# Altium integrated library Altium_WRIS-RSKS (rev23a).IntLib: 507 symbols (part 9 of 10)
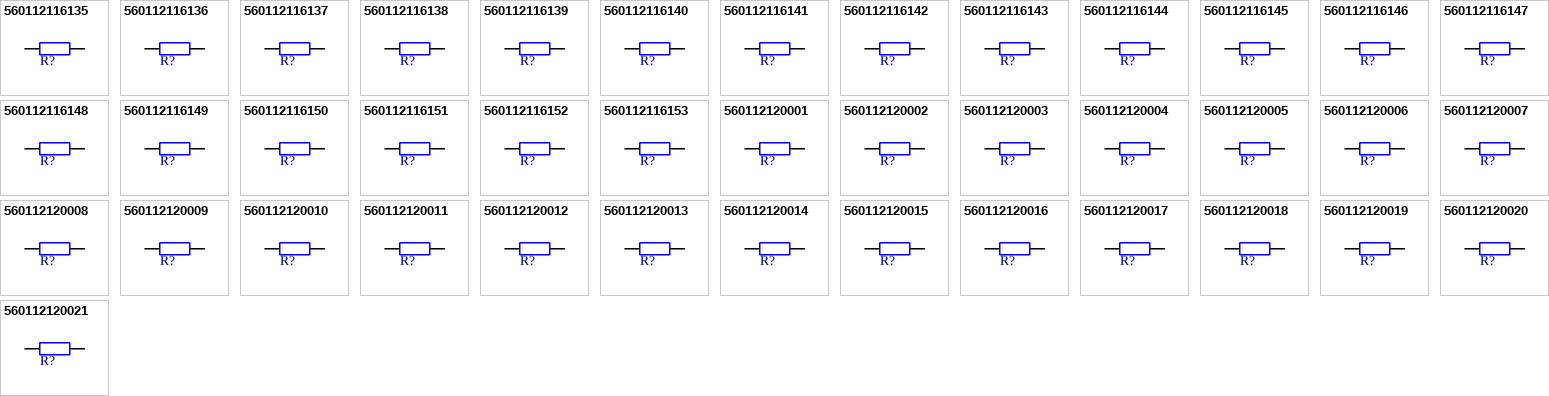
[diagram p20: symbols 560112116135 to 560112120021]

## 560112116153
designator R?, comment 4120Ohm, 100mW  (value not drawn)
WRIS-RSKS Thick Film Resistor, size 0603, 4120Ohm, 100mW; Manufacturer Part Number: 560112116153; Manufacturer: Wurth Elektronik; Case/Size Code: 0603; Limiting Element Voltage: 75V; Resistance Tolerance: +/-1%; Temperature Coefficient of Resistance Min: -100ppm/°C; Temperature Coefficient of Resistance Max: 100ppm/°C; Category: Thick Film Resistors; Match Code: WRIS-RSKS; ComponentLink1Description: Website Link; ComponentLink1URL: https://www.we-online.com/redexpert/article/560112116153?ad; ComponentLink2Description: Datasheet Link; ComponentLink2URL: https://www.we-online.com/redexpert/spec/560112116153?ad; Mount: Surface Mount; Operating Temperature Max: 155°C; Operating Temperature Min: -55°C; Packaging: Tape and Reel; Length: 1.6mm; Width: 0.8mm; Height: 0.45mm; Rated Power: 100mW; Resistance: 4120Ohm
footprint WRIS-RSKS_0603_Reflow
footprint WRIS-RSKS_0603_Wave
pins: 1, 2

## 560112120001
designator R?, comment 10Ohm, 250mW  (value not drawn)
WRIS-RSKS Thick Film Resistor, size 0805, 10Ohm, 250mW; Manufacturer Part Number: 560112120001; Manufacturer: Wurth Elektronik; Case/Size Code: 0805; Limiting Element Voltage: 150V; Resistance Tolerance: +/-5%; Temperature Coefficient of Resistance Min: -200ppm/°C; Temperature Coefficient of Resistance Max: 400ppm/°C; Category: Thick Film Resistors; Match Code: WRIS-RSKS; ComponentLink1Description: Website Link; ComponentLink1URL: https://www.we-online.com/redexpert/article/560112120001?ad; ComponentLink2Description: Datasheet Link; ComponentLink2URL: https://www.we-online.com/redexpert/spec/560112120001?ad; Mount: Surface Mount; Operating Temperature Max: 155°C; Operating Temperature Min: -55°C; Packaging: Tape and Reel; Length: 2mm; Width: 1.25mm; Height: 0.5mm; Rated Power: 250mW; Resistance: 10Ohm
footprint WRIS-RSKS_0805_Reflow
footprint WRIS-RSKS_0805_Wave
pins: 1, 2

## 560112120002
designator R?, comment 125mW  (value not drawn)
WRIS-RSKS Thick Film Resistor, size 0805, 125mW; Manufacturer Part Number: 560112120002; Manufacturer: Wurth Elektronik; Case/Size Code: 0805; Category: Thick Film Resistors; Match Code: WRIS-RSKS; ComponentLink1Description: Website Link; ComponentLink1URL: https://www.we-online.com/redexpert/article/560112120002?ad; ComponentLink2Description: Datasheet Link; ComponentLink2URL: https://www.we-online.com/redexpert/spec/560112120002?ad; Mount: Surface Mount; Operating Temperature Max: 155°C; Operating Temperature Min: -55°C; Packaging: Tape and Reel; Length: 2mm; Width: 1.25mm; Height: 0.5mm; Rated Power: 125mW
footprint WRIS-RSKS_0805_Reflow
footprint WRIS-RSKS_0805_Wave
pins: 1, 2

## 560112120003
designator R?, comment 47Ohm, 250mW  (value not drawn)
WRIS-RSKS Thick Film Resistor, size 0805, 47Ohm, 250mW; Manufacturer Part Number: 560112120003; Manufacturer: Wurth Elektronik; Case/Size Code: 0805; Limiting Element Voltage: 150V; Resistance Tolerance: +/-1%; Temperature Coefficient of Resistance Min: -100ppm/°C; Temperature Coefficient of Resistance Max: 100ppm/°C; Category: Thick Film Resistors; Match Code: WRIS-RSKS; ComponentLink1Description: Website Link; ComponentLink1URL: https://www.we-online.com/redexpert/article/560112120003?ad; ComponentLink2Description: Datasheet Link; ComponentLink2URL: https://www.we-online.com/redexpert/spec/560112120003?ad; Mount: Surface Mount; Operating Temperature Max: 155°C; Operating Temperature Min: -55°C; Packaging: Tape and Reel; Length: 2mm; Width: 1.25mm; Height: 0.5mm; Rated Power: 250mW; Resistance: 47Ohm
footprint WRIS-RSKS_0805_Reflow
footprint WRIS-RSKS_0805_Wave
pins: 1, 2

## 560112120004
designator R?, comment 10000Ohm, 250mW  (value not drawn)
WRIS-RSKS Thick Film Resistor, size 0805, 10000Ohm, 250mW; Manufacturer Part Number: 560112120004; Manufacturer: Wurth Elektronik; Case/Size Code: 0805; Limiting Element Voltage: 150V; Resistance Tolerance: +/-1%; Temperature Coefficient of Resistance Min: -100ppm/°C; Temperature Coefficient of Resistance Max: 100ppm/°C; Category: Thick Film Resistors; Match Code: WRIS-RSKS; ComponentLink1Description: Website Link; ComponentLink1URL: https://www.we-online.com/redexpert/article/560112120004?ad; ComponentLink2Description: Datasheet Link; ComponentLink2URL: https://www.we-online.com/redexpert/spec/560112120004?ad; Mount: Surface Mount; Operating Temperature Max: 155°C; Operating Temperature Min: -55°C; Packaging: Tape and Reel; Length: 2mm; Width: 1.25mm; Height: 0.5mm; Rated Power: 250mW; Resistance: 10000Ohm
footprint WRIS-RSKS_0805_Reflow
footprint WRIS-RSKS_0805_Wave
pins: 1, 2

## 560112120005
designator R?, comment 75Ohm, 250mW  (value not drawn)
WRIS-RSKS Thick Film Resistor, size 0805, 75Ohm, 250mW; Manufacturer Part Number: 560112120005; Manufacturer: Wurth Elektronik; Case/Size Code: 0805; Limiting Element Voltage: 150V; Resistance Tolerance: +/-5%; Temperature Coefficient of Resistance Min: -100ppm/°C; Temperature Coefficient of Resistance Max: 100ppm/°C; Category: Thick Film Resistors; Match Code: WRIS-RSKS; ComponentLink1Description: Website Link; ComponentLink1URL: https://www.we-online.com/redexpert/article/560112120005?ad; ComponentLink2Description: Datasheet Link; ComponentLink2URL: https://www.we-online.com/redexpert/spec/560112120005?ad; Mount: Surface Mount; Operating Temperature Max: 155°C; Operating Temperature Min: -55°C; Packaging: Tape and Reel; Length: 2mm; Width: 1.25mm; Height: 0.5mm; Rated Power: 250mW; Resistance: 75Ohm
footprint WRIS-RSKS_0805_Reflow
footprint WRIS-RSKS_0805_Wave
pins: 1, 2

## 560112120006
designator R?, comment 330000Ohm, 250mW  (value not drawn)
WRIS-RSKS Thick Film Resistor, size 0805, 330000Ohm, 250mW; Manufacturer Part Number: 560112120006; Manufacturer: Wurth Elektronik; Case/Size Code: 0805; Limiting Element Voltage: 150V; Resistance Tolerance: +/-1%; Temperature Coefficient of Resistance Min: -100ppm/°C; Temperature Coefficient of Resistance Max: 100ppm/°C; Category: Thick Film Resistors; Match Code: WRIS-RSKS; ComponentLink1Description: Website Link; ComponentLink1URL: https://www.we-online.com/redexpert/article/560112120006?ad; ComponentLink2Description: Datasheet Link; ComponentLink2URL: https://www.we-online.com/redexpert/spec/560112120006?ad; Mount: Surface Mount; Operating Temperature Max: 155°C; Operating Temperature Min: -55°C; Packaging: Tape and Reel; Length: 2mm; Width: 1.25mm; Height: 0.5mm; Rated Power: 250mW; Resistance: 330000Ohm
footprint WRIS-RSKS_0805_Reflow
footprint WRIS-RSKS_0805_Wave
pins: 1, 2

## 560112120007
designator R?, comment 36000Ohm, 250mW  (value not drawn)
WRIS-RSKS Thick Film Resistor, size 0805, 36000Ohm, 250mW; Manufacturer Part Number: 560112120007; Manufacturer: Wurth Elektronik; Case/Size Code: 0805; Limiting Element Voltage: 150V; Resistance Tolerance: +/-1%; Temperature Coefficient of Resistance Min: -100ppm/°C; Temperature Coefficient of Resistance Max: 100ppm/°C; Category: Thick Film Resistors; Match Code: WRIS-RSKS; ComponentLink1Description: Website Link; ComponentLink1URL: https://www.we-online.com/redexpert/article/560112120007?ad; ComponentLink2Description: Datasheet Link; ComponentLink2URL: https://www.we-online.com/redexpert/spec/560112120007?ad; Mount: Surface Mount; Operating Temperature Max: 155°C; Operating Temperature Min: -55°C; Packaging: Tape and Reel; Length: 2mm; Width: 1.25mm; Height: 0.5mm; Rated Power: 250mW; Resistance: 36000Ohm
footprint WRIS-RSKS_0805_Reflow
footprint WRIS-RSKS_0805_Wave
pins: 1, 2

## 560112120008
designator R?, comment 10Ohm, 250mW  (value not drawn)
WRIS-RSKS Thick Film Resistor, size 0805, 10Ohm, 250mW; Manufacturer Part Number: 560112120008; Manufacturer: Wurth Elektronik; Case/Size Code: 0805; Limiting Element Voltage: 150V; Resistance Tolerance: +/-1%; Temperature Coefficient of Resistance Min: -200ppm/°C; Temperature Coefficient of Resistance Max: 400ppm/°C; Category: Thick Film Resistors; Match Code: WRIS-RSKS; ComponentLink1Description: Website Link; ComponentLink1URL: https://www.we-online.com/redexpert/article/560112120008?ad; ComponentLink2Description: Datasheet Link; ComponentLink2URL: https://www.we-online.com/redexpert/spec/560112120008?ad; Mount: Surface Mount; Operating Temperature Max: 155°C; Operating Temperature Min: -55°C; Packaging: Tape and Reel; Length: 2mm; Width: 1.25mm; Height: 0.5mm; Rated Power: 250mW; Resistance: 10Ohm
footprint WRIS-RSKS_0805_Reflow
footprint WRIS-RSKS_0805_Wave
pins: 1, 2

## 560112120009
designator R?, comment 470000Ohm, 250mW  (value not drawn)
WRIS-RSKS Thick Film Resistor, size 0805, 470000Ohm, 250mW; Manufacturer Part Number: 560112120009; Manufacturer: Wurth Elektronik; Case/Size Code: 0805; Limiting Element Voltage: 150V; Resistance Tolerance: +/-1%; Temperature Coefficient of Resistance Min: -100ppm/°C; Temperature Coefficient of Resistance Max: 100ppm/°C; Category: Thick Film Resistors; Match Code: WRIS-RSKS; ComponentLink1Description: Website Link; ComponentLink1URL: https://www.we-online.com/redexpert/article/560112120009?ad; ComponentLink2Description: Datasheet Link; ComponentLink2URL: https://www.we-online.com/redexpert/spec/560112120009?ad; Mount: Surface Mount; Operating Temperature Max: 155°C; Operating Temperature Min: -55°C; Packaging: Tape and Reel; Length: 2mm; Width: 1.25mm; Height: 0.5mm; Rated Power: 250mW; Resistance: 470000Ohm
footprint WRIS-RSKS_0805_Reflow
footprint WRIS-RSKS_0805_Wave
pins: 1, 2

## 560112120010
designator R?, comment 196Ohm, 250mW  (value not drawn)
WRIS-RSKS Thick Film Resistor, size 0805, 196Ohm, 250mW; Manufacturer Part Number: 560112120010; Manufacturer: Wurth Elektronik; Case/Size Code: 0805; Limiting Element Voltage: 150V; Resistance Tolerance: +/-1%; Temperature Coefficient of Resistance Min: -100ppm/°C; Temperature Coefficient of Resistance Max: 100ppm/°C; Category: Thick Film Resistors; Match Code: WRIS-RSKS; ComponentLink1Description: Website Link; ComponentLink1URL: https://www.we-online.com/redexpert/article/560112120010?ad; ComponentLink2Description: Datasheet Link; ComponentLink2URL: https://www.we-online.com/redexpert/spec/560112120010?ad; Mount: Surface Mount; Operating Temperature Max: 155°C; Operating Temperature Min: -55°C; Packaging: Tape and Reel; Length: 2mm; Width: 1.25mm; Height: 0.5mm; Rated Power: 250mW; Resistance: 196Ohm
footprint WRIS-RSKS_0805_Reflow
footprint WRIS-RSKS_0805_Wave
pins: 1, 2

## 560112120011
designator R?, comment 332Ohm, 250mW  (value not drawn)
WRIS-RSKS Thick Film Resistor, size 0805, 332Ohm, 250mW; Manufacturer Part Number: 560112120011; Manufacturer: Wurth Elektronik; Case/Size Code: 0805; Limiting Element Voltage: 150V; Resistance Tolerance: +/-1%; Temperature Coefficient of Resistance Min: -100ppm/°C; Temperature Coefficient of Resistance Max: 100ppm/°C; Category: Thick Film Resistors; Match Code: WRIS-RSKS; ComponentLink1Description: Website Link; ComponentLink1URL: https://www.we-online.com/redexpert/article/560112120011?ad; ComponentLink2Description: Datasheet Link; ComponentLink2URL: https://www.we-online.com/redexpert/spec/560112120011?ad; Mount: Surface Mount; Operating Temperature Max: 155°C; Operating Temperature Min: -55°C; Packaging: Tape and Reel; Length: 2mm; Width: 1.25mm; Height: 0.5mm; Rated Power: 250mW; Resistance: 332Ohm
footprint WRIS-RSKS_0805_Reflow
footprint WRIS-RSKS_0805_Wave
pins: 1, 2

## 560112120012
designator R?, comment 510000Ohm, 250mW  (value not drawn)
WRIS-RSKS Thick Film Resistor, size 0805, 510000Ohm, 250mW; Manufacturer Part Number: 560112120012; Manufacturer: Wurth Elektronik; Case/Size Code: 0805; Limiting Element Voltage: 150V; Resistance Tolerance: +/-1%; Temperature Coefficient of Resistance Min: -100ppm/°C; Temperature Coefficient of Resistance Max: 100ppm/°C; Category: Thick Film Resistors; Match Code: WRIS-RSKS; ComponentLink1Description: Website Link; ComponentLink1URL: https://www.we-online.com/redexpert/article/560112120012?ad; ComponentLink2Description: Datasheet Link; ComponentLink2URL: https://www.we-online.com/redexpert/spec/560112120012?ad; Mount: Surface Mount; Operating Temperature Max: 155°C; Operating Temperature Min: -55°C; Packaging: Tape and Reel; Length: 2mm; Width: 1.25mm; Height: 0.5mm; Rated Power: 250mW; Resistance: 510000Ohm
footprint WRIS-RSKS_0805_Reflow
footprint WRIS-RSKS_0805_Wave
pins: 1, 2

## 560112120013
designator R?, comment 100000Ohm, 250mW  (value not drawn)
WRIS-RSKS Thick Film Resistor, size 0805, 100000Ohm, 250mW; Manufacturer Part Number: 560112120013; Manufacturer: Wurth Elektronik; Case/Size Code: 0805; Limiting Element Voltage: 150V; Resistance Tolerance: +/-1%; Temperature Coefficient of Resistance Min: -100ppm/°C; Temperature Coefficient of Resistance Max: 100ppm/°C; Category: Thick Film Resistors; Match Code: WRIS-RSKS; ComponentLink1Description: Website Link; ComponentLink1URL: https://www.we-online.com/redexpert/article/560112120013?ad; ComponentLink2Description: Datasheet Link; ComponentLink2URL: https://www.we-online.com/redexpert/spec/560112120013?ad; Mount: Surface Mount; Operating Temperature Max: 155°C; Operating Temperature Min: -55°C; Packaging: Tape and Reel; Length: 2mm; Width: 1.25mm; Height: 0.5mm; Rated Power: 250mW; Resistance: 100000Ohm
footprint WRIS-RSKS_0805_Reflow
footprint WRIS-RSKS_0805_Wave
pins: 1, 2

## 560112120014
designator R?, comment 330Ohm, 250mW  (value not drawn)
WRIS-RSKS Thick Film Resistor, size 0805, 330Ohm, 250mW; Manufacturer Part Number: 560112120014; Manufacturer: Wurth Elektronik; Case/Size Code: 0805; Limiting Element Voltage: 150V; Resistance Tolerance: +/-5%; Temperature Coefficient of Resistance Min: -100ppm/°C; Temperature Coefficient of Resistance Max: 100ppm/°C; Category: Thick Film Resistors; Match Code: WRIS-RSKS; ComponentLink1Description: Website Link; ComponentLink1URL: https://www.we-online.com/redexpert/article/560112120014?ad; ComponentLink2Description: Datasheet Link; ComponentLink2URL: https://www.we-online.com/redexpert/spec/560112120014?ad; Mount: Surface Mount; Operating Temperature Max: 155°C; Operating Temperature Min: -55°C; Packaging: Tape and Reel; Length: 2mm; Width: 1.25mm; Height: 0.5mm; Rated Power: 250mW; Resistance: 330Ohm
footprint WRIS-RSKS_0805_Reflow
footprint WRIS-RSKS_0805_Wave
pins: 1, 2

## 560112120015
designator R?, comment 200Ohm, 250mW  (value not drawn)
WRIS-RSKS Thick Film Resistor, size 0805, 200Ohm, 250mW; Manufacturer Part Number: 560112120015; Manufacturer: Wurth Elektronik; Case/Size Code: 0805; Limiting Element Voltage: 150V; Resistance Tolerance: +/-1%; Temperature Coefficient of Resistance Min: -100ppm/°C; Temperature Coefficient of Resistance Max: 100ppm/°C; Category: Thick Film Resistors; Match Code: WRIS-RSKS; ComponentLink1Description: Website Link; ComponentLink1URL: https://www.we-online.com/redexpert/article/560112120015?ad; ComponentLink2Description: Datasheet Link; ComponentLink2URL: https://www.we-online.com/redexpert/spec/560112120015?ad; Mount: Surface Mount; Operating Temperature Max: 155°C; Operating Temperature Min: -55°C; Packaging: Tape and Reel; Length: 2mm; Width: 1.25mm; Height: 0.5mm; Rated Power: 250mW; Resistance: 200Ohm
footprint WRIS-RSKS_0805_Reflow
footprint WRIS-RSKS_0805_Wave
pins: 1, 2

## 560112120016
designator R?, comment 2Ohm, 250mW  (value not drawn)
WRIS-RSKS Thick Film Resistor, size 0805, 2Ohm, 250mW; Manufacturer Part Number: 560112120016; Manufacturer: Wurth Elektronik; Case/Size Code: 0805; Limiting Element Voltage: 150V; Resistance Tolerance: +/-5%; Temperature Coefficient of Resistance Min: -200ppm/°C; Temperature Coefficient of Resistance Max: 400ppm/°C; Category: Thick Film Resistors; Match Code: WRIS-RSKS; ComponentLink1Description: Website Link; ComponentLink1URL: https://www.we-online.com/redexpert/article/560112120016?ad; ComponentLink2Description: Datasheet Link; ComponentLink2URL: https://www.we-online.com/redexpert/spec/560112120016?ad; Mount: Surface Mount; Operating Temperature Max: 155°C; Operating Temperature Min: -55°C; Packaging: Tape and Reel; Length: 2mm; Width: 1.25mm; Height: 0.5mm; Rated Power: 250mW; Resistance: 2Ohm
footprint WRIS-RSKS_0805_Reflow
footprint WRIS-RSKS_0805_Wave
pins: 1, 2

## 560112120017
designator R?, comment 300Ohm, 250mW  (value not drawn)
WRIS-RSKS Thick Film Resistor, size 0805, 300Ohm, 250mW; Manufacturer Part Number: 560112120017; Manufacturer: Wurth Elektronik; Case/Size Code: 0805; Limiting Element Voltage: 150V; Resistance Tolerance: +/-1%; Temperature Coefficient of Resistance Min: -100ppm/°C; Temperature Coefficient of Resistance Max: 100ppm/°C; Category: Thick Film Resistors; Match Code: WRIS-RSKS; ComponentLink1Description: Website Link; ComponentLink1URL: https://www.we-online.com/redexpert/article/560112120017?ad; ComponentLink2Description: Datasheet Link; ComponentLink2URL: https://www.we-online.com/redexpert/spec/560112120017?ad; Mount: Surface Mount; Operating Temperature Max: 155°C; Operating Temperature Min: -55°C; Packaging: Tape and Reel; Length: 2mm; Width: 1.25mm; Height: 0.5mm; Rated Power: 250mW; Resistance: 300Ohm
footprint WRIS-RSKS_0805_Reflow
footprint WRIS-RSKS_0805_Wave
pins: 1, 2

## 560112120018
designator R?, comment 2.2Ohm, 250mW  (value not drawn)
WRIS-RSKS Thick Film Resistor, size 0805, 2.2Ohm, 250mW; Manufacturer Part Number: 560112120018; Manufacturer: Wurth Elektronik; Case/Size Code: 0805; Limiting Element Voltage: 150V; Resistance Tolerance: +/-1%; Temperature Coefficient of Resistance Min: -200ppm/°C; Temperature Coefficient of Resistance Max: 400ppm/°C; Category: Thick Film Resistors; Match Code: WRIS-RSKS; ComponentLink1Description: Website Link; ComponentLink1URL: https://www.we-online.com/redexpert/article/560112120018?ad; ComponentLink2Description: Datasheet Link; ComponentLink2URL: https://www.we-online.com/redexpert/spec/560112120018?ad; Mount: Surface Mount; Operating Temperature Max: 155°C; Operating Temperature Min: -55°C; Packaging: Tape and Reel; Length: 2mm; Width: 1.25mm; Height: 0.5mm; Rated Power: 250mW; Resistance: 2.2Ohm
footprint WRIS-RSKS_0805_Reflow
footprint WRIS-RSKS_0805_Wave
pins: 1, 2

## 560112120019
designator R?, comment 5100Ohm, 250mW  (value not drawn)
WRIS-RSKS Thick Film Resistor, size 0805, 5100Ohm, 250mW; Manufacturer Part Number: 560112120019; Manufacturer: Wurth Elektronik; Case/Size Code: 0805; Limiting Element Voltage: 150V; Resistance Tolerance: +/-5%; Temperature Coefficient of Resistance Min: -100ppm/°C; Temperature Coefficient of Resistance Max: 100ppm/°C; Category: Thick Film Resistors; Match Code: WRIS-RSKS; ComponentLink1Description: Website Link; ComponentLink1URL: https://www.we-online.com/redexpert/article/560112120019?ad; ComponentLink2Description: Datasheet Link; ComponentLink2URL: https://www.we-online.com/redexpert/spec/560112120019?ad; Mount: Surface Mount; Operating Temperature Max: 155°C; Operating Temperature Min: -55°C; Packaging: Tape and Reel; Length: 2mm; Width: 1.25mm; Height: 0.5mm; Rated Power: 250mW; Resistance: 5100Ohm
footprint WRIS-RSKS_0805_Reflow
footprint WRIS-RSKS_0805_Wave
pins: 1, 2

## 560112120020
designator R?, comment 100Ohm, 250mW  (value not drawn)
WRIS-RSKS Thick Film Resistor, size 0805, 100Ohm, 250mW; Manufacturer Part Number: 560112120020; Manufacturer: Wurth Elektronik; Case/Size Code: 0805; Limiting Element Voltage: 150V; Resistance Tolerance: +/-1%; Temperature Coefficient of Resistance Min: -100ppm/°C; Temperature Coefficient of Resistance Max: 100ppm/°C; Category: Thick Film Resistors; Match Code: WRIS-RSKS; ComponentLink1Description: Website Link; ComponentLink1URL: https://www.we-online.com/redexpert/article/560112120020?ad; ComponentLink2Description: Datasheet Link; ComponentLink2URL: https://www.we-online.com/redexpert/spec/560112120020?ad; Mount: Surface Mount; Operating Temperature Max: 155°C; Operating Temperature Min: -55°C; Packaging: Tape and Reel; Length: 2mm; Width: 1.25mm; Height: 0.5mm; Rated Power: 250mW; Resistance: 100Ohm
footprint WRIS-RSKS_0805_Reflow
footprint WRIS-RSKS_0805_Wave
pins: 1, 2

## 560112120021
designator R?, comment 100Ohm, 250mW  (value not drawn)
WRIS-RSKS Thick Film Resistor, size 0805, 100Ohm, 250mW; Manufacturer Part Number: 560112120021; Manufacturer: Wurth Elektronik; Case/Size Code: 0805; Limiting Element Voltage: 150V; Resistance Tolerance: +/-5%; Temperature Coefficient of Resistance Min: -100ppm/°C; Temperature Coefficient of Resistance Max: 100ppm/°C; Category: Thick Film Resistors; Match Code: WRIS-RSKS; ComponentLink1Description: Website Link; ComponentLink1URL: https://www.we-online.com/redexpert/article/560112120021?ad; ComponentLink2Description: Datasheet Link; ComponentLink2URL: https://www.we-online.com/redexpert/spec/560112120021?ad; Mount: Surface Mount; Operating Temperature Max: 155°C; Operating Temperature Min: -55°C; Packaging: Tape and Reel; Length: 2mm; Width: 1.25mm; Height: 0.5mm; Rated Power: 250mW; Resistance: 100Ohm
footprint WRIS-RSKS_0805_Reflow
footprint WRIS-RSKS_0805_Wave
pins: 1, 2

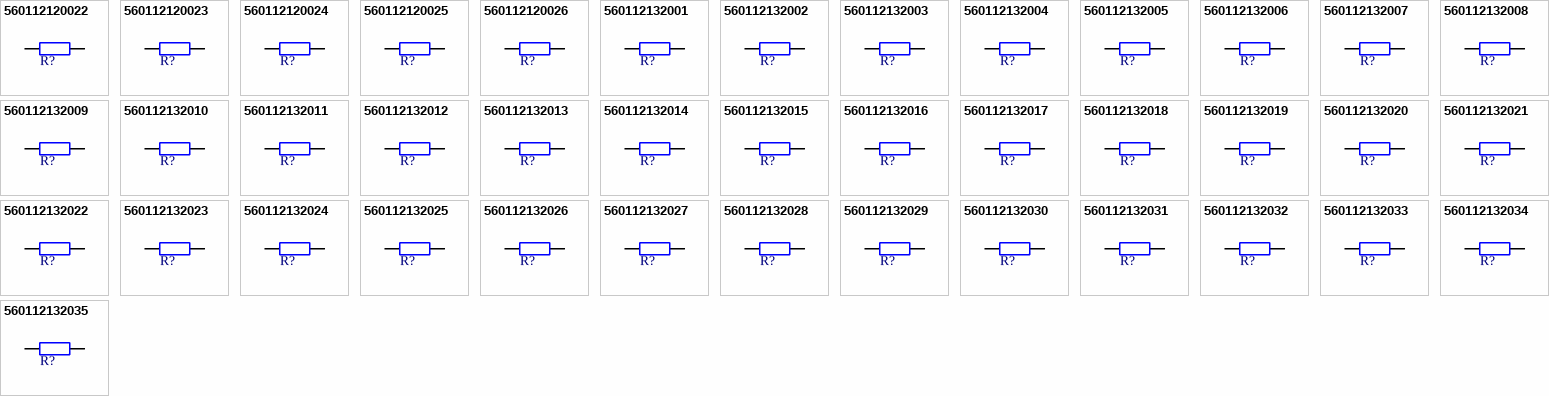
[diagram p11: symbols 560112120022 to 560112132035]

## 560112120022
designator R?, comment 1820Ohm, 250mW  (value not drawn)
WRIS-RSKS Thick Film Resistor, size 0805, 1820Ohm, 250mW; Manufacturer Part Number: 560112120022; Manufacturer: Wurth Elektronik; Case/Size Code: 0805; Limiting Element Voltage: 150V; Resistance Tolerance: +/-1%; Temperature Coefficient of Resistance Min: -100ppm/°C; Temperature Coefficient of Resistance Max: 100ppm/°C; Category: Thick Film Resistors; Match Code: WRIS-RSKS; ComponentLink1Description: Website Link; ComponentLink1URL: https://www.we-online.com/redexpert/article/560112120022?ad; ComponentLink2Description: Datasheet Link; ComponentLink2URL: https://www.we-online.com/redexpert/spec/560112120022?ad; Mount: Surface Mount; Operating Temperature Max: 155°C; Operating Temperature Min: -55°C; Packaging: Tape and Reel; Length: 2mm; Width: 1.25mm; Height: 0.5mm; Rated Power: 250mW; Resistance: 1820Ohm
footprint WRIS-RSKS_0805_Reflow
footprint WRIS-RSKS_0805_Wave
pins: 1, 2

## 560112120023
designator R?, comment 261000Ohm, 250mW  (value not drawn)
WRIS-RSKS Thick Film Resistor, size 0805, 261000Ohm, 250mW; Manufacturer Part Number: 560112120023; Manufacturer: Wurth Elektronik; Case/Size Code: 0805; Limiting Element Voltage: 150V; Resistance Tolerance: +/-1%; Temperature Coefficient of Resistance Min: -100ppm/°C; Temperature Coefficient of Resistance Max: 100ppm/°C; Category: Thick Film Resistors; Match Code: WRIS-RSKS; ComponentLink1Description: Website Link; ComponentLink1URL: https://www.we-online.com/redexpert/article/560112120023?ad; ComponentLink2Description: Datasheet Link; ComponentLink2URL: https://www.we-online.com/redexpert/spec/560112120023?ad; Mount: Surface Mount; Operating Temperature Max: 155°C; Operating Temperature Min: -55°C; Packaging: Tape and Reel; Length: 2mm; Width: 1.25mm; Height: 0.5mm; Rated Power: 250mW; Resistance: 261000Ohm
footprint WRIS-RSKS_0805_Reflow
footprint WRIS-RSKS_0805_Wave
pins: 1, 2

## 560112120024
designator R?, comment 301Ohm, 250mW  (value not drawn)
WRIS-RSKS Thick Film Resistor, size 0805, 301Ohm, 250mW; Manufacturer Part Number: 560112120024; Manufacturer: Wurth Elektronik; Case/Size Code: 0805; Limiting Element Voltage: 150V; Resistance Tolerance: +/-1%; Temperature Coefficient of Resistance Min: -100ppm/°C; Temperature Coefficient of Resistance Max: 100ppm/°C; Category: Thick Film Resistors; Match Code: WRIS-RSKS; ComponentLink1Description: Website Link; ComponentLink1URL: https://www.we-online.com/redexpert/article/560112120024?ad; ComponentLink2Description: Datasheet Link; ComponentLink2URL: https://www.we-online.com/redexpert/spec/560112120024?ad; Mount: Surface Mount; Operating Temperature Max: 155°C; Operating Temperature Min: -55°C; Packaging: Tape and Reel; Length: 2mm; Width: 1.25mm; Height: 0.5mm; Rated Power: 250mW; Resistance: 301Ohm
footprint WRIS-RSKS_0805_Reflow
footprint WRIS-RSKS_0805_Wave
pins: 1, 2

## 560112120025
designator R?, comment 3.3Ohm, 250mW  (value not drawn)
WRIS-RSKS Thick Film Resistor, size 0805, 3.3Ohm, 250mW; Manufacturer Part Number: 560112120025; Manufacturer: Wurth Elektronik; Case/Size Code: 0805; Limiting Element Voltage: 150V; Resistance Tolerance: +/-5%; Temperature Coefficient of Resistance Min: -200ppm/°C; Temperature Coefficient of Resistance Max: 400ppm/°C; Category: Thick Film Resistors; Match Code: WRIS-RSKS; ComponentLink1Description: Website Link; ComponentLink1URL: https://www.we-online.com/redexpert/article/560112120025?ad; ComponentLink2Description: Datasheet Link; ComponentLink2URL: https://www.we-online.com/redexpert/spec/560112120025?ad; Mount: Surface Mount; Operating Temperature Max: 155°C; Operating Temperature Min: -55°C; Packaging: Tape and Reel; Length: 2mm; Width: 1.25mm; Height: 0.5mm; Rated Power: 250mW; Resistance: 3.3Ohm
footprint WRIS-RSKS_0805_Reflow
footprint WRIS-RSKS_0805_Wave
pins: 1, 2

## 560112120026
designator R?, comment 22100Ohm, 250mW  (value not drawn)
WRIS-RSKS Thick Film Resistor, size 0805, 22100Ohm, 250mW; Manufacturer Part Number: 560112120026; Manufacturer: Wurth Elektronik; Case/Size Code: 0805; Limiting Element Voltage: 150V; Resistance Tolerance: +/-1%; Temperature Coefficient of Resistance Min: -100ppm/°C; Temperature Coefficient of Resistance Max: 100ppm/°C; Category: Thick Film Resistors; Match Code: WRIS-RSKS; ComponentLink1Description: Website Link; ComponentLink1URL: https://www.we-online.com/redexpert/article/560112120026?ad; ComponentLink2Description: Datasheet Link; ComponentLink2URL: https://www.we-online.com/redexpert/spec/560112120026?ad; Mount: Surface Mount; Operating Temperature Max: 155°C; Operating Temperature Min: -55°C; Packaging: Tape and Reel; Length: 2mm; Width: 1.25mm; Height: 0.5mm; Rated Power: 250mW; Resistance: 22100Ohm
footprint WRIS-RSKS_0805_Reflow
footprint WRIS-RSKS_0805_Wave
pins: 1, 2

## 560112132001
designator R?, comment 470000Ohm, 250mW  (value not drawn)
WRIS-RSKS Thick Film Resistor, size 1206, 470000Ohm, 250mW; Manufacturer Part Number: 560112132001; Manufacturer: Wurth Elektronik; Case/Size Code: 1206; Limiting Element Voltage: 200V; Resistance Tolerance: +/-1%; Temperature Coefficient of Resistance Min: -100ppm/°C; Temperature Coefficient of Resistance Max: 100ppm/°C; Category: Thick Film Resistors; Match Code: WRIS-RSKS; ComponentLink1Description: Website Link; ComponentLink1URL: https://www.we-online.com/redexpert/article/560112132001?ad; ComponentLink2Description: Datasheet Link; ComponentLink2URL: https://www.we-online.com/redexpert/spec/560112132001?ad; Mount: Surface Mount; Operating Temperature Max: 155°C; Operating Temperature Min: -55°C; Packaging: Tape and Reel; Length: 3.1mm; Width: 1.6mm; Height: 0.6mm; Rated Power: 250mW; Resistance: 470000Ohm
footprint WRIS-RSKS_1206_Reflow
footprint WRIS-RSKS_1206_Wave
pins: 1, 2

## 560112132002
designator R?, comment 1Ohm, 250mW  (value not drawn)
WRIS-RSKS Thick Film Resistor, size 1206, 1Ohm, 250mW; Manufacturer Part Number: 560112132002; Manufacturer: Wurth Elektronik; Case/Size Code: 1206; Limiting Element Voltage: 200V; Resistance Tolerance: +/-1%; Temperature Coefficient of Resistance Min: -200ppm/°C; Temperature Coefficient of Resistance Max: 400ppm/°C; Category: Thick Film Resistors; Match Code: WRIS-RSKS; ComponentLink1Description: Website Link; ComponentLink1URL: https://www.we-online.com/redexpert/article/560112132002?ad; ComponentLink2Description: Datasheet Link; ComponentLink2URL: https://www.we-online.com/redexpert/spec/560112132002?ad; Mount: Surface Mount; Operating Temperature Max: 155°C; Operating Temperature Min: -55°C; Packaging: Tape and Reel; Length: 3.1mm; Width: 1.6mm; Height: 0.6mm; Rated Power: 250mW; Resistance: 1Ohm
footprint WRIS-RSKS_1206_Reflow
footprint WRIS-RSKS_1206_Wave
pins: 1, 2

## 560112132003
designator R?, comment 680000Ohm, 250mW  (value not drawn)
WRIS-RSKS Thick Film Resistor, size 1206, 680000Ohm, 250mW; Manufacturer Part Number: 560112132003; Manufacturer: Wurth Elektronik; Case/Size Code: 1206; Limiting Element Voltage: 200V; Resistance Tolerance: +/-1%; Temperature Coefficient of Resistance Min: -100ppm/°C; Temperature Coefficient of Resistance Max: 100ppm/°C; Category: Thick Film Resistors; Match Code: WRIS-RSKS; ComponentLink1Description: Website Link; ComponentLink1URL: https://www.we-online.com/redexpert/article/560112132003?ad; ComponentLink2Description: Datasheet Link; ComponentLink2URL: https://www.we-online.com/redexpert/spec/560112132003?ad; Mount: Surface Mount; Operating Temperature Max: 155°C; Operating Temperature Min: -55°C; Packaging: Tape and Reel; Length: 3.1mm; Width: 1.6mm; Height: 0.6mm; Rated Power: 250mW; Resistance: 680000Ohm
footprint WRIS-RSKS_1206_Reflow
footprint WRIS-RSKS_1206_Wave
pins: 1, 2

## 560112132004
designator R?, comment 56000Ohm, 250mW  (value not drawn)
WRIS-RSKS Thick Film Resistor, size 1206, 56000Ohm, 250mW; Manufacturer Part Number: 560112132004; Manufacturer: Wurth Elektronik; Case/Size Code: 1206; Limiting Element Voltage: 200V; Resistance Tolerance: +/-1%; Temperature Coefficient of Resistance Min: -100ppm/°C; Temperature Coefficient of Resistance Max: 100ppm/°C; Category: Thick Film Resistors; Match Code: WRIS-RSKS; ComponentLink1Description: Website Link; ComponentLink1URL: https://www.we-online.com/redexpert/article/560112132004?ad; ComponentLink2Description: Datasheet Link; ComponentLink2URL: https://www.we-online.com/redexpert/spec/560112132004?ad; Mount: Surface Mount; Operating Temperature Max: 155°C; Operating Temperature Min: -55°C; Packaging: Tape and Reel; Length: 3.1mm; Width: 1.6mm; Height: 0.6mm; Rated Power: 250mW; Resistance: 56000Ohm
footprint WRIS-RSKS_1206_Reflow
footprint WRIS-RSKS_1206_Wave
pins: 1, 2

## 560112132005
designator R?, comment 27000Ohm, 250mW  (value not drawn)
WRIS-RSKS Thick Film Resistor, size 1206, 27000Ohm, 250mW; Manufacturer Part Number: 560112132005; Manufacturer: Wurth Elektronik; Case/Size Code: 1206; Limiting Element Voltage: 200V; Resistance Tolerance: +/-1%; Temperature Coefficient of Resistance Min: -100ppm/°C; Temperature Coefficient of Resistance Max: 100ppm/°C; Category: Thick Film Resistors; Match Code: WRIS-RSKS; ComponentLink1Description: Website Link; ComponentLink1URL: https://www.we-online.com/redexpert/article/560112132005?ad; ComponentLink2Description: Datasheet Link; ComponentLink2URL: https://www.we-online.com/redexpert/spec/560112132005?ad; Mount: Surface Mount; Operating Temperature Max: 155°C; Operating Temperature Min: -55°C; Packaging: Tape and Reel; Length: 3.1mm; Width: 1.6mm; Height: 0.6mm; Rated Power: 250mW; Resistance: 27000Ohm
footprint WRIS-RSKS_1206_Reflow
footprint WRIS-RSKS_1206_Wave
pins: 1, 2

## 560112132006
designator R?, comment 150000Ohm, 250mW  (value not drawn)
WRIS-RSKS Thick Film Resistor, size 1206, 150000Ohm, 250mW; Manufacturer Part Number: 560112132006; Manufacturer: Wurth Elektronik; Case/Size Code: 1206; Limiting Element Voltage: 200V; Resistance Tolerance: +/-1%; Temperature Coefficient of Resistance Min: -100ppm/°C; Temperature Coefficient of Resistance Max: 100ppm/°C; Category: Thick Film Resistors; Match Code: WRIS-RSKS; ComponentLink1Description: Website Link; ComponentLink1URL: https://www.we-online.com/redexpert/article/560112132006?ad; ComponentLink2Description: Datasheet Link; ComponentLink2URL: https://www.we-online.com/redexpert/spec/560112132006?ad; Mount: Surface Mount; Operating Temperature Max: 155°C; Operating Temperature Min: -55°C; Packaging: Tape and Reel; Length: 3.1mm; Width: 1.6mm; Height: 0.6mm; Rated Power: 250mW; Resistance: 150000Ohm
footprint WRIS-RSKS_1206_Reflow
footprint WRIS-RSKS_1206_Wave
pins: 1, 2

## 560112132007
designator R?, comment 250mW  (value not drawn)
WRIS-RSKS Thick Film Resistor, size 1206, 250mW; Manufacturer Part Number: 560112132007; Manufacturer: Wurth Elektronik; Case/Size Code: 1206; Category: Thick Film Resistors; Match Code: WRIS-RSKS; ComponentLink1Description: Website Link; ComponentLink1URL: https://www.we-online.com/redexpert/article/560112132007?ad; ComponentLink2Description: Datasheet Link; ComponentLink2URL: https://www.we-online.com/redexpert/spec/560112132007?ad; Mount: Surface Mount; Operating Temperature Max: 155°C; Operating Temperature Min: -55°C; Packaging: Tape and Reel; Length: 3.1mm; Width: 1.6mm; Height: 0.6mm; Rated Power: 250mW
footprint WRIS-RSKS_1206_Reflow
footprint WRIS-RSKS_1206_Wave
pins: 1, 2

## 560112132008
designator R?, comment 20Ohm, 250mW  (value not drawn)
WRIS-RSKS Thick Film Resistor, size 1206, 20Ohm, 250mW; Manufacturer Part Number: 560112132008; Manufacturer: Wurth Elektronik; Case/Size Code: 1206; Limiting Element Voltage: 200V; Resistance Tolerance: +/-1%; Temperature Coefficient of Resistance Min: -100ppm/°C; Temperature Coefficient of Resistance Max: 100ppm/°C; Category: Thick Film Resistors; Match Code: WRIS-RSKS; ComponentLink1Description: Website Link; ComponentLink1URL: https://www.we-online.com/redexpert/article/560112132008?ad; ComponentLink2Description: Datasheet Link; ComponentLink2URL: https://www.we-online.com/redexpert/spec/560112132008?ad; Mount: Surface Mount; Operating Temperature Max: 155°C; Operating Temperature Min: -55°C; Packaging: Tape and Reel; Length: 3.1mm; Width: 1.6mm; Height: 0.6mm; Rated Power: 250mW; Resistance: 20Ohm
footprint WRIS-RSKS_1206_Reflow
footprint WRIS-RSKS_1206_Wave
pins: 1, 2

## 560112132009
designator R?, comment 12000Ohm, 250mW  (value not drawn)
WRIS-RSKS Thick Film Resistor, size 1206, 12000Ohm, 250mW; Manufacturer Part Number: 560112132009; Manufacturer: Wurth Elektronik; Case/Size Code: 1206; Limiting Element Voltage: 200V; Resistance Tolerance: +/-1%; Temperature Coefficient of Resistance Min: -100ppm/°C; Temperature Coefficient of Resistance Max: 100ppm/°C; Category: Thick Film Resistors; Match Code: WRIS-RSKS; ComponentLink1Description: Website Link; ComponentLink1URL: https://www.we-online.com/redexpert/article/560112132009?ad; ComponentLink2Description: Datasheet Link; ComponentLink2URL: https://www.we-online.com/redexpert/spec/560112132009?ad; Mount: Surface Mount; Operating Temperature Max: 155°C; Operating Temperature Min: -55°C; Packaging: Tape and Reel; Length: 3.1mm; Width: 1.6mm; Height: 0.6mm; Rated Power: 250mW; Resistance: 12000Ohm
footprint WRIS-RSKS_1206_Reflow
footprint WRIS-RSKS_1206_Wave
pins: 1, 2

## 560112132010
designator R?, comment 1.2Ohm, 250mW  (value not drawn)
WRIS-RSKS Thick Film Resistor, size 1206, 1.2Ohm, 250mW; Manufacturer Part Number: 560112132010; Manufacturer: Wurth Elektronik; Case/Size Code: 1206; Limiting Element Voltage: 200V; Resistance Tolerance: +/-1%; Temperature Coefficient of Resistance Min: -200ppm/°C; Temperature Coefficient of Resistance Max: 400ppm/°C; Category: Thick Film Resistors; Match Code: WRIS-RSKS; ComponentLink1Description: Website Link; ComponentLink1URL: https://www.we-online.com/redexpert/article/560112132010?ad; ComponentLink2Description: Datasheet Link; ComponentLink2URL: https://www.we-online.com/redexpert/spec/560112132010?ad; Mount: Surface Mount; Operating Temperature Max: 155°C; Operating Temperature Min: -55°C; Packaging: Tape and Reel; Length: 3.1mm; Width: 1.6mm; Height: 0.6mm; Rated Power: 250mW; Resistance: 1.2Ohm
footprint WRIS-RSKS_1206_Reflow
footprint WRIS-RSKS_1206_Wave
pins: 1, 2

## 560112132011
designator R?, comment 1000000Ohm, 250mW  (value not drawn)
WRIS-RSKS Thick Film Resistor, size 1206, 1000000Ohm, 250mW; Manufacturer Part Number: 560112132011; Manufacturer: Wurth Elektronik; Case/Size Code: 1206; Limiting Element Voltage: 200V; Resistance Tolerance: +/-1%; Temperature Coefficient of Resistance Min: -100ppm/°C; Temperature Coefficient of Resistance Max: 100ppm/°C; Category: Thick Film Resistors; Match Code: WRIS-RSKS; ComponentLink1Description: Website Link; ComponentLink1URL: https://www.we-online.com/redexpert/article/560112132011?ad; ComponentLink2Description: Datasheet Link; ComponentLink2URL: https://www.we-online.com/redexpert/spec/560112132011?ad; Mount: Surface Mount; Operating Temperature Max: 155°C; Operating Temperature Min: -55°C; Packaging: Tape and Reel; Length: 3.1mm; Width: 1.6mm; Height: 0.6mm; Rated Power: 250mW; Resistance: 1000000Ohm
footprint WRIS-RSKS_1206_Reflow
footprint WRIS-RSKS_1206_Wave
pins: 1, 2

## 560112132012
designator R?, comment 120000Ohm, 250mW  (value not drawn)
WRIS-RSKS Thick Film Resistor, size 1206, 120000Ohm, 250mW; Manufacturer Part Number: 560112132012; Manufacturer: Wurth Elektronik; Case/Size Code: 1206; Limiting Element Voltage: 200V; Resistance Tolerance: +/-1%; Temperature Coefficient of Resistance Min: -100ppm/°C; Temperature Coefficient of Resistance Max: 100ppm/°C; Category: Thick Film Resistors; Match Code: WRIS-RSKS; ComponentLink1Description: Website Link; ComponentLink1URL: https://www.we-online.com/redexpert/article/560112132012?ad; ComponentLink2Description: Datasheet Link; ComponentLink2URL: https://www.we-online.com/redexpert/spec/560112132012?ad; Mount: Surface Mount; Operating Temperature Max: 155°C; Operating Temperature Min: -55°C; Packaging: Tape and Reel; Length: 3.1mm; Width: 1.6mm; Height: 0.6mm; Rated Power: 250mW; Resistance: 120000Ohm
footprint WRIS-RSKS_1206_Reflow
footprint WRIS-RSKS_1206_Wave
pins: 1, 2

## 560112132013
designator R?, comment 100000Ohm, 250mW  (value not drawn)
WRIS-RSKS Thick Film Resistor, size 1206, 100000Ohm, 250mW; Manufacturer Part Number: 560112132013; Manufacturer: Wurth Elektronik; Case/Size Code: 1206; Limiting Element Voltage: 200V; Resistance Tolerance: +/-5%; Temperature Coefficient of Resistance Min: -100ppm/°C; Temperature Coefficient of Resistance Max: 100ppm/°C; Category: Thick Film Resistors; Match Code: WRIS-RSKS; ComponentLink1Description: Website Link; ComponentLink1URL: https://www.we-online.com/redexpert/article/560112132013?ad; ComponentLink2Description: Datasheet Link; ComponentLink2URL: https://www.we-online.com/redexpert/spec/560112132013?ad; Mount: Surface Mount; Operating Temperature Max: 155°C; Operating Temperature Min: -55°C; Packaging: Tape and Reel; Length: 3.1mm; Width: 1.6mm; Height: 0.6mm; Rated Power: 250mW; Resistance: 100000Ohm
footprint WRIS-RSKS_1206_Reflow
footprint WRIS-RSKS_1206_Wave
pins: 1, 2

## 560112132014
designator R?, comment 1.8Ohm, 250mW  (value not drawn)
WRIS-RSKS Thick Film Resistor, size 1206, 1.8Ohm, 250mW; Manufacturer Part Number: 560112132014; Manufacturer: Wurth Elektronik; Case/Size Code: 1206; Limiting Element Voltage: 200V; Resistance Tolerance: +/-1%; Temperature Coefficient of Resistance Min: -200ppm/°C; Temperature Coefficient of Resistance Max: 400ppm/°C; Category: Thick Film Resistors; Match Code: WRIS-RSKS; ComponentLink1Description: Website Link; ComponentLink1URL: https://www.we-online.com/redexpert/article/560112132014?ad; ComponentLink2Description: Datasheet Link; ComponentLink2URL: https://www.we-online.com/redexpert/spec/560112132014?ad; Mount: Surface Mount; Operating Temperature Max: 155°C; Operating Temperature Min: -55°C; Packaging: Tape and Reel; Length: 3.1mm; Width: 1.6mm; Height: 0.6mm; Rated Power: 250mW; Resistance: 1.8Ohm
footprint WRIS-RSKS_1206_Reflow
footprint WRIS-RSKS_1206_Wave
pins: 1, 2

## 560112132015
designator R?, comment 220000Ohm, 250mW  (value not drawn)
WRIS-RSKS Thick Film Resistor, size 1206, 220000Ohm, 250mW; Manufacturer Part Number: 560112132015; Manufacturer: Wurth Elektronik; Case/Size Code: 1206; Limiting Element Voltage: 200V; Resistance Tolerance: +/-5%; Temperature Coefficient of Resistance Min: -100ppm/°C; Temperature Coefficient of Resistance Max: 100ppm/°C; Category: Thick Film Resistors; Match Code: WRIS-RSKS; ComponentLink1Description: Website Link; ComponentLink1URL: https://www.we-online.com/redexpert/article/560112132015?ad; ComponentLink2Description: Datasheet Link; ComponentLink2URL: https://www.we-online.com/redexpert/spec/560112132015?ad; Mount: Surface Mount; Operating Temperature Max: 155°C; Operating Temperature Min: -55°C; Packaging: Tape and Reel; Length: 3.1mm; Width: 1.6mm; Height: 0.6mm; Rated Power: 250mW; Resistance: 220000Ohm
footprint WRIS-RSKS_1206_Reflow
footprint WRIS-RSKS_1206_Wave
pins: 1, 2

## 560112132016
designator R?, comment 2.2Ohm, 250mW  (value not drawn)
WRIS-RSKS Thick Film Resistor, size 1206, 2.2Ohm, 250mW; Manufacturer Part Number: 560112132016; Manufacturer: Wurth Elektronik; Case/Size Code: 1206; Limiting Element Voltage: 200V; Resistance Tolerance: +/-1%; Temperature Coefficient of Resistance Min: -200ppm/°C; Temperature Coefficient of Resistance Max: 400ppm/°C; Category: Thick Film Resistors; Match Code: WRIS-RSKS; ComponentLink1Description: Website Link; ComponentLink1URL: https://www.we-online.com/redexpert/article/560112132016?ad; ComponentLink2Description: Datasheet Link; ComponentLink2URL: https://www.we-online.com/redexpert/spec/560112132016?ad; Mount: Surface Mount; Operating Temperature Max: 155°C; Operating Temperature Min: -55°C; Packaging: Tape and Reel; Length: 3.1mm; Width: 1.6mm; Height: 0.6mm; Rated Power: 250mW; Resistance: 2.2Ohm
footprint WRIS-RSKS_1206_Reflow
footprint WRIS-RSKS_1206_Wave
pins: 1, 2

## 560112132017
designator R?, comment 220000Ohm, 250mW  (value not drawn)
WRIS-RSKS Thick Film Resistor, size 1206, 220000Ohm, 250mW; Manufacturer Part Number: 560112132017; Manufacturer: Wurth Elektronik; Case/Size Code: 1206; Limiting Element Voltage: 200V; Resistance Tolerance: +/-1%; Temperature Coefficient of Resistance Min: -100ppm/°C; Temperature Coefficient of Resistance Max: 100ppm/°C; Category: Thick Film Resistors; Match Code: WRIS-RSKS; ComponentLink1Description: Website Link; ComponentLink1URL: https://www.we-online.com/redexpert/article/560112132017?ad; ComponentLink2Description: Datasheet Link; ComponentLink2URL: https://www.we-online.com/redexpert/spec/560112132017?ad; Mount: Surface Mount; Operating Temperature Max: 155°C; Operating Temperature Min: -55°C; Packaging: Tape and Reel; Length: 3.1mm; Width: 1.6mm; Height: 0.6mm; Rated Power: 250mW; Resistance: 220000Ohm
footprint WRIS-RSKS_1206_Reflow
footprint WRIS-RSKS_1206_Wave
pins: 1, 2

## 560112132018
designator R?, comment 10000Ohm, 250mW  (value not drawn)
WRIS-RSKS Thick Film Resistor, size 1206, 10000Ohm, 250mW; Manufacturer Part Number: 560112132018; Manufacturer: Wurth Elektronik; Case/Size Code: 1206; Limiting Element Voltage: 200V; Resistance Tolerance: +/-1%; Temperature Coefficient of Resistance Min: -100ppm/°C; Temperature Coefficient of Resistance Max: 100ppm/°C; Category: Thick Film Resistors; Match Code: WRIS-RSKS; ComponentLink1Description: Website Link; ComponentLink1URL: https://www.we-online.com/redexpert/article/560112132018?ad; ComponentLink2Description: Datasheet Link; ComponentLink2URL: https://www.we-online.com/redexpert/spec/560112132018?ad; Mount: Surface Mount; Operating Temperature Max: 155°C; Operating Temperature Min: -55°C; Packaging: Tape and Reel; Length: 3.1mm; Width: 1.6mm; Height: 0.6mm; Rated Power: 250mW; Resistance: 10000Ohm
footprint WRIS-RSKS_1206_Reflow
footprint WRIS-RSKS_1206_Wave
pins: 1, 2

## 560112132019
designator R?, comment 2200Ohm, 250mW  (value not drawn)
WRIS-RSKS Thick Film Resistor, size 1206, 2200Ohm, 250mW; Manufacturer Part Number: 560112132019; Manufacturer: Wurth Elektronik; Case/Size Code: 1206; Limiting Element Voltage: 200V; Resistance Tolerance: +/-1%; Temperature Coefficient of Resistance Min: -100ppm/°C; Temperature Coefficient of Resistance Max: 100ppm/°C; Category: Thick Film Resistors; Match Code: WRIS-RSKS; ComponentLink1Description: Website Link; ComponentLink1URL: https://www.we-online.com/redexpert/article/560112132019?ad; ComponentLink2Description: Datasheet Link; ComponentLink2URL: https://www.we-online.com/redexpert/spec/560112132019?ad; Mount: Surface Mount; Operating Temperature Max: 155°C; Operating Temperature Min: -55°C; Packaging: Tape and Reel; Length: 3.1mm; Width: 1.6mm; Height: 0.6mm; Rated Power: 250mW; Resistance: 2200Ohm
footprint WRIS-RSKS_1206_Reflow
footprint WRIS-RSKS_1206_Wave
pins: 1, 2

## 560112132020
designator R?, comment 4700Ohm, 250mW  (value not drawn)
WRIS-RSKS Thick Film Resistor, size 1206, 4700Ohm, 250mW; Manufacturer Part Number: 560112132020; Manufacturer: Wurth Elektronik; Case/Size Code: 1206; Limiting Element Voltage: 200V; Resistance Tolerance: +/-1%; Temperature Coefficient of Resistance Min: -100ppm/°C; Temperature Coefficient of Resistance Max: 100ppm/°C; Category: Thick Film Resistors; Match Code: WRIS-RSKS; ComponentLink1Description: Website Link; ComponentLink1URL: https://www.we-online.com/redexpert/article/560112132020?ad; ComponentLink2Description: Datasheet Link; ComponentLink2URL: https://www.we-online.com/redexpert/spec/560112132020?ad; Mount: Surface Mount; Operating Temperature Max: 155°C; Operating Temperature Min: -55°C; Packaging: Tape and Reel; Length: 3.1mm; Width: 1.6mm; Height: 0.6mm; Rated Power: 250mW; Resistance: 4700Ohm
footprint WRIS-RSKS_1206_Reflow
footprint WRIS-RSKS_1206_Wave
pins: 1, 2

## 560112132021
designator R?, comment 510000Ohm, 250mW  (value not drawn)
WRIS-RSKS Thick Film Resistor, size 1206, 510000Ohm, 250mW; Manufacturer Part Number: 560112132021; Manufacturer: Wurth Elektronik; Case/Size Code: 1206; Limiting Element Voltage: 200V; Resistance Tolerance: +/-1%; Temperature Coefficient of Resistance Min: -100ppm/°C; Temperature Coefficient of Resistance Max: 100ppm/°C; Category: Thick Film Resistors; Match Code: WRIS-RSKS; ComponentLink1Description: Website Link; ComponentLink1URL: https://www.we-online.com/redexpert/article/560112132021?ad; ComponentLink2Description: Datasheet Link; ComponentLink2URL: https://www.we-online.com/redexpert/spec/560112132021?ad; Mount: Surface Mount; Operating Temperature Max: 155°C; Operating Temperature Min: -55°C; Packaging: Tape and Reel; Length: 3.1mm; Width: 1.6mm; Height: 0.6mm; Rated Power: 250mW; Resistance: 510000Ohm
footprint WRIS-RSKS_1206_Reflow
footprint WRIS-RSKS_1206_Wave
pins: 1, 2

## 560112132022
designator R?, comment 68000Ohm, 250mW  (value not drawn)
WRIS-RSKS Thick Film Resistor, size 1206, 68000Ohm, 250mW; Manufacturer Part Number: 560112132022; Manufacturer: Wurth Elektronik; Case/Size Code: 1206; Limiting Element Voltage: 200V; Resistance Tolerance: +/-1%; Temperature Coefficient of Resistance Min: -100ppm/°C; Temperature Coefficient of Resistance Max: 100ppm/°C; Category: Thick Film Resistors; Match Code: WRIS-RSKS; ComponentLink1Description: Website Link; ComponentLink1URL: https://www.we-online.com/redexpert/article/560112132022?ad; ComponentLink2Description: Datasheet Link; ComponentLink2URL: https://www.we-online.com/redexpert/spec/560112132022?ad; Mount: Surface Mount; Operating Temperature Max: 155°C; Operating Temperature Min: -55°C; Packaging: Tape and Reel; Length: 3.1mm; Width: 1.6mm; Height: 0.6mm; Rated Power: 250mW; Resistance: 68000Ohm
footprint WRIS-RSKS_1206_Reflow
footprint WRIS-RSKS_1206_Wave
pins: 1, 2

## 560112132023
designator R?, comment 100Ohm, 250mW  (value not drawn)
WRIS-RSKS Thick Film Resistor, size 1206, 100Ohm, 250mW; Manufacturer Part Number: 560112132023; Manufacturer: Wurth Elektronik; Case/Size Code: 1206; Limiting Element Voltage: 200V; Resistance Tolerance: +/-1%; Temperature Coefficient of Resistance Min: -100ppm/°C; Temperature Coefficient of Resistance Max: 100ppm/°C; Category: Thick Film Resistors; Match Code: WRIS-RSKS; ComponentLink1Description: Website Link; ComponentLink1URL: https://www.we-online.com/redexpert/article/560112132023?ad; ComponentLink2Description: Datasheet Link; ComponentLink2URL: https://www.we-online.com/redexpert/spec/560112132023?ad; Mount: Surface Mount; Operating Temperature Max: 155°C; Operating Temperature Min: -55°C; Packaging: Tape and Reel; Length: 3.1mm; Width: 1.6mm; Height: 0.6mm; Rated Power: 250mW; Resistance: 100Ohm
footprint WRIS-RSKS_1206_Reflow
footprint WRIS-RSKS_1206_Wave
pins: 1, 2

## 560112132024
designator R?, comment 1.1Ohm, 250mW  (value not drawn)
WRIS-RSKS Thick Film Resistor, size 1206, 1.1Ohm, 250mW; Manufacturer Part Number: 560112132024; Manufacturer: Wurth Elektronik; Case/Size Code: 1206; Limiting Element Voltage: 200V; Resistance Tolerance: +/-1%; Temperature Coefficient of Resistance Min: -200ppm/°C; Temperature Coefficient of Resistance Max: 400ppm/°C; Category: Thick Film Resistors; Match Code: WRIS-RSKS; ComponentLink1Description: Website Link; ComponentLink1URL: https://www.we-online.com/redexpert/article/560112132024?ad; ComponentLink2Description: Datasheet Link; ComponentLink2URL: https://www.we-online.com/redexpert/spec/560112132024?ad; Mount: Surface Mount; Operating Temperature Max: 155°C; Operating Temperature Min: -55°C; Packaging: Tape and Reel; Length: 3.1mm; Width: 1.6mm; Height: 0.6mm; Rated Power: 250mW; Resistance: 1.1Ohm
footprint WRIS-RSKS_1206_Reflow
footprint WRIS-RSKS_1206_Wave
pins: 1, 2

## 560112132025
designator R?, comment 2000000Ohm, 250mW  (value not drawn)
WRIS-RSKS Thick Film Resistor, size 1206, 2000000Ohm, 250mW; Manufacturer Part Number: 560112132025; Manufacturer: Wurth Elektronik; Case/Size Code: 1206; Limiting Element Voltage: 200V; Resistance Tolerance: +/-1%; Temperature Coefficient of Resistance Min: -200ppm/°C; Temperature Coefficient of Resistance Max: 200ppm/°C; Category: Thick Film Resistors; Match Code: WRIS-RSKS; ComponentLink1Description: Website Link; ComponentLink1URL: https://www.we-online.com/redexpert/article/560112132025?ad; ComponentLink2Description: Datasheet Link; ComponentLink2URL: https://www.we-online.com/redexpert/spec/560112132025?ad; Mount: Surface Mount; Operating Temperature Max: 155°C; Operating Temperature Min: -55°C; Packaging: Tape and Reel; Length: 3.1mm; Width: 1.6mm; Height: 0.6mm; Rated Power: 250mW; Resistance: 2000000Ohm
footprint WRIS-RSKS_1206_Reflow
footprint WRIS-RSKS_1206_Wave
pins: 1, 2